# EAGLE library part TPS61291 (library r1)
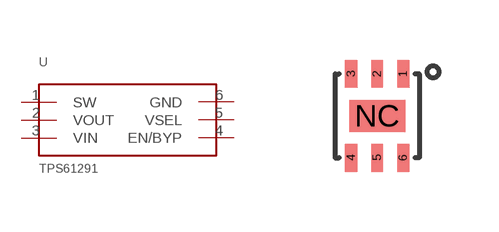
[diagram p1: symbol with the pads of DRV(S-PWSON-N6); footprint DRV(S-PWSON-N6)]

Designator prefix -

## TPS61291  [DRV(S-PWSON-N6)]
1  SW
2  VOUT
3  VIN
4  EN/BYP
5  VSEL
6  GND

## Footprint DRV(S-PWSON-N6) (pad centres in mm)
smd 0.3 x 0.7: 1 0.65,1.05; 2 0,1.05; 3 -0.65,1.05; 4 -0.65,-1.05; 5 0,-1.05; 6 0.65,-1.05
smd 1.4 x 0.8: NC 0,0